# EAGLE library part BQ500511 (library Tristan+Robitaille's+Library)
bq500511 Low Cost 5-V Wireless Power Transmitter Controller for WPC v1.2 A11 Transmitters Technical specifications: Supply voltage range: 2 V ~ 3.6 V Operating temperature range: -40°C ~ 85°C Digital Controller Compatible with Wireless Power Consortium v1.2 A11 Specification Designed to be used with BQ50002 Analog Front End Supports 5W on the receiver output Datasheet <http://www.ti.com/lit/ds/symlink/bq500511.pdf> Digi-Key part #: 296-43176-1-ND <http://www.digikey.ca/product-detail/en/texas-instruments/BQ500511RHAT/296-43176-1-ND/5730770> Mouser part #: 595-BQ500511RHAT <http://ca.mouser.com/ProductDetail/Texas-Instruments/BQ500511RHAT/?qs=sGAEpiMZZMvsTkZFiuFJv%252bDxp73FEmd8ihtTcf9bKgj5Qj00BXG0qQ%3d%3d> Manufacturer part #: BQ500511RHAT
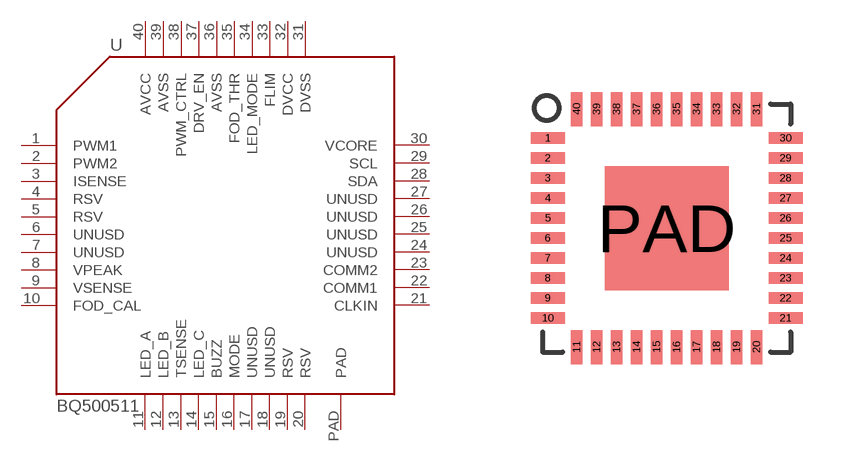
[diagram p18: symbol with the pads of S-PVQFN_N40; footprint S-PVQFN_N40]

Designator prefix U

## BQ500511  [S-PVQFN_N40]
1  PWM1  out
2  PWM2  out
3  ISENSE  in
4  RSV  in
5  RSV  in
6  UNUSD  in
7  UNUSD
8  VPEAK  in
9  VSENSE  in
10  FOD_CAL  in
11  LED_A  out
12  LED_B  out
13  TSENSE  in
14  LED_C  out
15  BUZZ  out
16  MODE  out
17  UNUSD
18  UNUSD
19  RSV  in
20  RSV
21  CLKIN  in
22  COMM1  in
23  COMM2  in
24  UNUSD
25  UNUSD
26  UNUSD
27  UNUSD
28  SDA
29  SCL
30  VCORE  pwr
31  DVSS  pwr
32  DVCC  pwr
33  FLIM  in
34  LED_MODE  in
35  FOD_THR  in
36  AVSS  pwr
37  DRV_EN  out
38  PWM_CTRL  out
39  AVSS  pwr
40  AVCC  pwr
PAD  PAD

## Footprint S-PVQFN_N40 (pad centres in mm)
smd 0.85 x 0.28: 1 -2.975,2.25; 2 -2.975,1.75; 3 -2.975,1.25; 4 -2.975,0.75; 5 -2.975,0.25; 6 -2.975,-0.25; 7 -2.975,-0.75; 8 -2.975,-1.25; 9 -2.975,-1.75; 10 -2.975,-2.25; 21 2.975,-2.25; 22 2.975,-1.75; 23 2.975,-1.25; 24 2.975,-0.75; 25 2.975,-0.25; 26 2.975,0.25; 27 2.975,0.75; 28 2.975,1.25; 29 2.975,1.75; 30 2.975,2.25
smd 0.28 x 0.85: 11 -2.25,-2.975; 12 -1.75,-2.975; 13 -1.25,-2.975; 14 -0.75,-2.975; 15 -0.25,-2.975; 16 0.25,-2.975; 17 0.75,-2.975; 18 1.25,-2.975; 19 1.75,-2.975; 20 2.25,-2.975; 31 2.25,2.975; 32 1.75,2.975; 33 1.25,2.975; 34 0.75,2.975; 35 0.25,2.975; 36 -0.25,2.975; 37 -0.75,2.975; 38 -1.25,2.975; 39 -1.75,2.975; 40 -2.25,2.975
smd 3.1 x 3.1: PAD 0,0